# EAGLE library part MUX506IDWR (library MUX506IDWR)
MUX50x 36V, Low-Capacitance, Low-Charge-Injection, Precision, Analog Multiplexer Source: Datasheet <http://www.ti.com/lit/gpn/mux506>
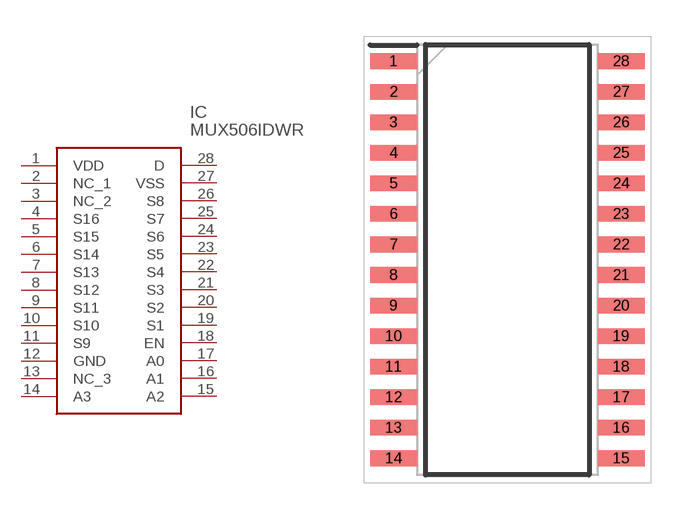
[diagram p0: symbol with the pads of SOIC127P1030X265-28N; footprint SOIC127P1030X265-28N]

Designator prefix IC

## MUX506IDWR (Description: MUX50x 36V, Low-Capacitance, Low-Charge-Injection, Precision, Analog Multiplexer; Height: 2.65mm; Manufacturer_Name: Texas Instruments; Manufacturer_Part_Number: MUX506IDWR; Mouser_Part_Number: 595-MUX506IDWR; Mouser_Price-Stock: https://www.mouser.co.uk/ProductDetail/Texas-Instruments/MUX506IDWR/?qs=7EBvPakHacVyv2nASLrMzg%3D%3D)  [SOIC127P1030X265-28N]
1  VDD
2  NC_1
3  NC_2
4  S16
5  S15
6  S14
7  S13
8  S12
9  S11
10  S10
11  S9
12  GND
13  NC_3
14  A3
15  A2
16  A1
17  A0
18  EN
19  S1
20  S2
21  S3
22  S4
23  S5
24  S6
25  S7
26  S8
27  VSS
28  D

## Footprint SOIC127P1030X265-28N (pad centres in mm)
MUX506IDWR-1
smd 1.95 x 0.65: 1 -4.725,8.255; 2 -4.725,6.985; 3 -4.725,5.715; 4 -4.725,4.445; 5 -4.725,3.175; 6 -4.725,1.905; 7 -4.725,0.635; 8 -4.725,-0.635; 9 -4.725,-1.905; 10 -4.725,-3.175; 11 -4.725,-4.445; 12 -4.725,-5.715; 13 -4.725,-6.985; 14 -4.725,-8.255; 15 4.725,-8.255; 16 4.725,-6.985; 17 4.725,-5.715; 18 4.725,-4.445; 19 4.725,-3.175; 20 4.725,-1.905; 21 4.725,-0.635; 22 4.725,0.635; 23 4.725,1.905; 24 4.725,3.175; 25 4.725,4.445; 26 4.725,5.715; 27 4.725,6.985; 28 4.725,8.255